# EAGLE library part MEGAWING_DUAL_P1 (library Papilio)
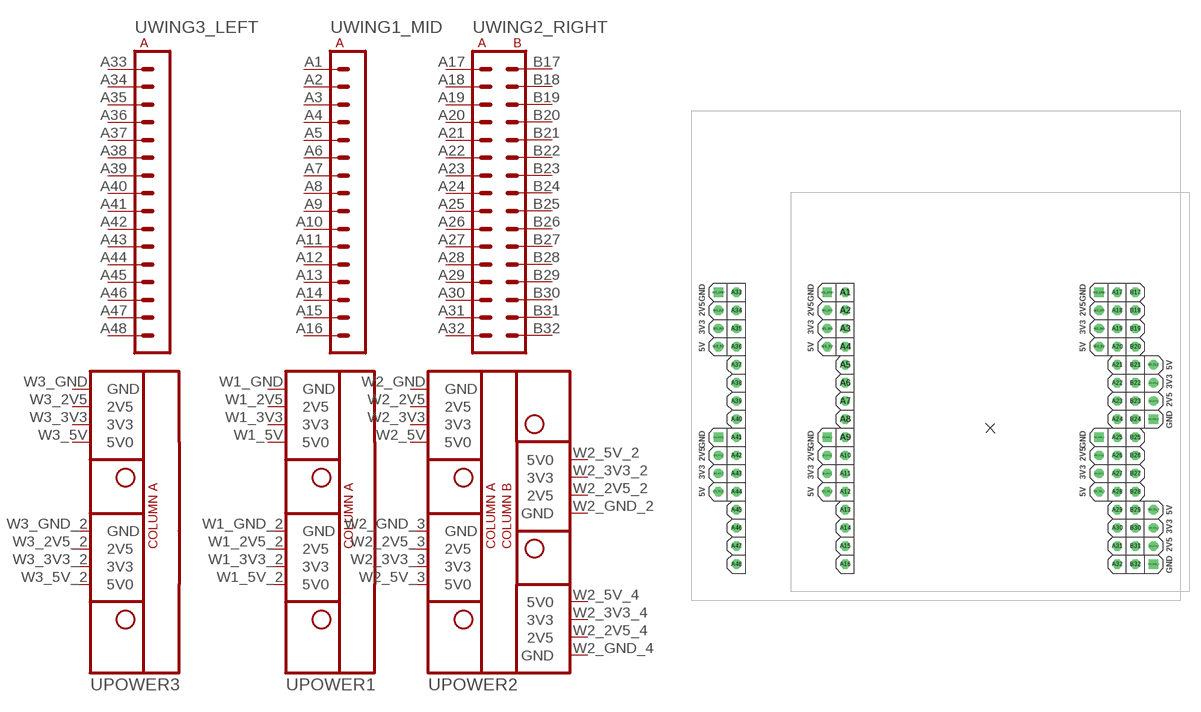
[diagram p3: symbol with the pads of MEGAWING_DUAL_NOHOLES_P1; footprint MEGAWING_DUAL_NOHOLES_P1]

Designator prefix -; gates WING2_RIGHT=WING32_IO WING1_MID=WING16_IO WING3_LEFT=WING16_IO POWER2=WING32_POWER POWER1=WING16_POWER POWER3=WING16_POWER

## MEGAWING_DUAL_P1  [MEGAWING_DUAL_NOHOLES_P1]
A1  WING1_MID:A1
A2  WING1_MID:A2
A3  WING1_MID:A3
A4  WING1_MID:A4
A5  WING1_MID:A5
A6  WING1_MID:A6
A7  WING1_MID:A7
A8  WING1_MID:A8
A9  WING1_MID:A9
A10  WING1_MID:A10
A11  WING1_MID:A11
A12  WING1_MID:A12
A13  WING1_MID:A13
A14  WING1_MID:A14
A15  WING1_MID:A15
A16  WING1_MID:A16
A17  WING2_RIGHT:A1
A18  WING2_RIGHT:A2
A19  WING2_RIGHT:A3
A20  WING2_RIGHT:A4
A21  WING2_RIGHT:A5
A22  WING2_RIGHT:A6
A23  WING2_RIGHT:A7
A24  WING2_RIGHT:A8
A25  WING2_RIGHT:A9
A26  WING2_RIGHT:A10
A27  WING2_RIGHT:A11
A28  WING2_RIGHT:A12
A29  WING2_RIGHT:A13
A30  WING2_RIGHT:A14
A31  WING2_RIGHT:A15
A32  WING2_RIGHT:A16
A33  WING3_LEFT:A1
A34  WING3_LEFT:A2
A35  WING3_LEFT:A3
A36  WING3_LEFT:A4
A37  WING3_LEFT:A5
A38  WING3_LEFT:A6
A39  WING3_LEFT:A7
A40  WING3_LEFT:A8
A41  WING3_LEFT:A9
A42  WING3_LEFT:A10
A43  WING3_LEFT:A11
A44  WING3_LEFT:A12
A45  WING3_LEFT:A13
A46  WING3_LEFT:A14
A47  WING3_LEFT:A15
A48  WING3_LEFT:A16
B17  WING2_RIGHT:B1
B18  WING2_RIGHT:B2
B19  WING2_RIGHT:B3
B20  WING2_RIGHT:B4
B21  WING2_RIGHT:B5
B22  WING2_RIGHT:B6
B23  WING2_RIGHT:B7
B24  WING2_RIGHT:B8
B25  WING2_RIGHT:B9
B26  WING2_RIGHT:B10
B27  WING2_RIGHT:B11
B28  WING2_RIGHT:B12
B29  WING2_RIGHT:B13
B30  WING2_RIGHT:B14
B31  WING2_RIGHT:B15
B32  WING2_RIGHT:B16
W1_2V5  POWER1:2V5  pas
W1_2V5_2  POWER1:2V5  pas
W1_3V3  POWER1:3V3  pas
W1_3V3_2  POWER1:3V3  pas
W1_5V  POWER1:5V0  pas
W1_5V_2  POWER1:5V0  pas
W1_GND  POWER1:GND  pwr
W1_GND_2  POWER1:GND  pwr
W2_2V5  POWER2:2V5  pas
W2_2V5_2  POWER2:2V5  pas
W2_2V5_3  POWER2:2V5  pas
W2_2V5_4  POWER2:2V5  pas
W2_3V3  POWER2:3V3  pas
W2_3V3_2  POWER2:3V3  pas
W2_3V3_3  POWER2:3V3  pas
W2_3V3_4  POWER2:3V3  pas
W2_5V  POWER2:5V0  pas
W2_5V_2  POWER2:5V0  pas
W2_5V_3  POWER2:5V0  pas
W2_5V_4  POWER2:5V0  pas
W2_GND  POWER2:GND  pwr
W2_GND_2  POWER2:GND  pwr
W2_GND_3  POWER2:GND  pwr
W2_GND_4  POWER2:GND  pwr
W3_2V5  POWER3:2V5  pas
W3_2V5_2  POWER3:2V5  pas
W3_3V3  POWER3:3V3  pas
W3_3V3_2  POWER3:3V3  pas
W3_5V  POWER3:5V0  pas
W3_5V_2  POWER3:5V0  pas
W3_GND  POWER3:GND  pwr
W3_GND_2  POWER3:GND  pwr

## Footprint MEGAWING_DUAL_NOHOLES_P1 (pad centres in mm)
Use this footprint for compact papilio boards such as the Papilio RAM.
drill 0.8 octagon: A1 -20.32,19.05; A2 -20.32,16.51; A3 -20.32,13.97; A4 -20.32,11.43; A5 -20.32,8.89; A6 -20.32,6.35; A7 -20.32,3.81; A8 -20.32,1.27; A9 -20.32,-1.27; A10 -20.32,-3.81; A11 -20.32,-6.35; A12 -20.32,-8.89; A13 -20.32,-11.43; A14 -20.32,-13.97; A15 -20.32,-16.51; A16 -20.32,-19.05; A17 17.78,19.05; A18 17.78,16.51; A19 17.78,13.97; A20 17.78,11.43; A21 17.78,8.89; A22 17.78,6.35; A23 17.78,3.81; A24 17.78,1.27; A25 17.78,-1.27; A26 17.78,-3.81; A27 17.78,-6.35; A28 17.78,-8.89; A29 17.78,-11.43; A30 17.78,-13.97; A31 17.78,-16.51; A32 17.78,-19.05; A33 -35.56,19.05; A34 -35.56,16.51; A35 -35.56,13.97; A36 -35.56,11.43; A37 -35.56,8.89; A38 -35.56,6.35; A39 -35.56,3.81; A40 -35.56,1.27; A41 -35.56,-1.27; A42 -35.56,-3.81; A43 -35.56,-6.35; A44 -35.56,-8.89; A45 -35.56,-11.43; A46 -35.56,-13.97; A47 -35.56,-16.51; A48 -35.56,-19.05; B17 20.32,19.05; B18 20.32,16.51; B19 20.32,13.97; B20 20.32,11.43; B21 20.32,8.89; B22 20.32,6.35; B23 20.32,3.81; B24 20.32,1.27; B25 20.32,-1.27; B26 20.32,-3.81; B27 20.32,-6.35; B28 20.32,-8.89; B29 20.32,-11.43; B30 20.32,-13.97; B31 20.32,-16.51; B32 20.32,-19.05; W1_2V5 -22.86,16.51; W1_2V5_2 -22.86,-3.81; W1_3V3 -22.86,13.97; W1_3V3_2 -22.86,-6.35; W1_5V -22.86,11.43; W1_5V_2 -22.86,-8.89; W2_2V5 15.24,16.51; W2_2V5_2 22.86,3.81; W2_2V5_3 15.24,-3.81; W2_2V5_4 22.86,-16.51; W2_3V3 15.24,13.97; W2_3V3_2 22.86,6.35; W2_3V3_3 15.24,-6.35; W2_3V3_4 22.86,-13.97; W2_5V 15.24,11.43; W2_5V_2 22.86,8.89; W2_5V_3 15.24,-8.89; W2_5V_4 22.86,-11.43; W3_2V5 -38.1,16.51; W3_2V5_2 -38.1,-3.81; W3_3V3 -38.1,13.97; W3_3V3_2 -38.1,-6.35; W3_5V -38.1,11.43; W3_5V_2 -38.1,-8.89
drill 0.8 square: W1_GND -22.86,19.05; W1_GND_2 -22.86,-1.27; W2_GND 15.24,19.05; W2_GND_2 22.86,1.27; W2_GND_3 15.24,-1.27; W2_GND_4 22.86,-19.05; W3_GND -38.1,19.05; W3_GND_2 -38.1,-1.27